# Altium footprint library RF_Connector.PcbLib: 3 footprints
Each footprint in its own frame and in the unit in brackets; x right, y up, seen from the top. Pads: shape width x height; smd on the part's side, far side on the other; paste and mask are expansions set on the pad; w line width, h text height; cw(c..) or ccw(c..) is an arc to the next point about the centre after c.
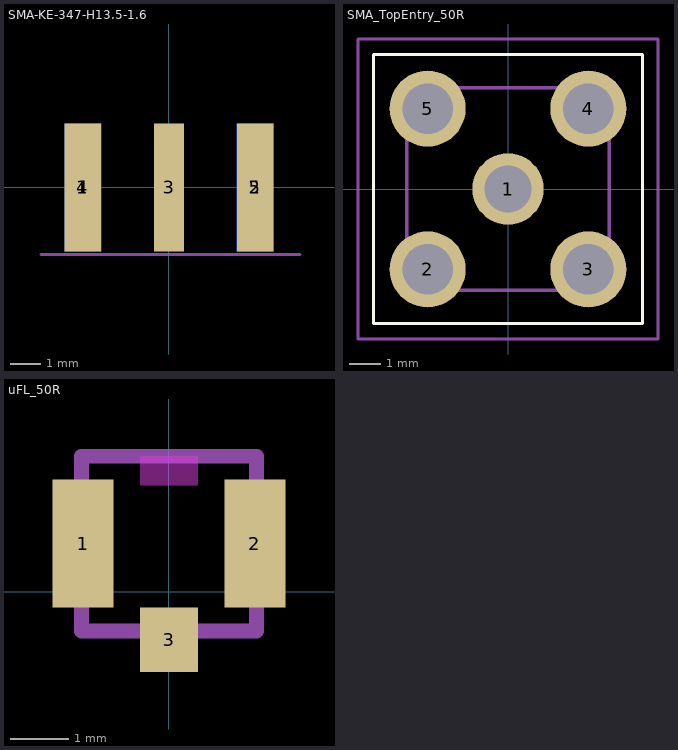
[diagram p0: the footprints below, top view; thin cyan lines are the x and y axes]

## SMA-KE-347-H13.5-1.6 [mm] "SMA BOARD EDGE LAUNCH"
height 3.8
pads (5):
  rect 1.2x4.2 smd: 1(-2.825,0) 2(2.825,0)
  rect 1x4.2 smd: 3(0,0)
  rect 1.2x4.2 smd far side: 4(-2.825,0) 5(2.825,0)
Mechanical 15:
  lines w0.1: -4.2,-2.2 -3.5,-2.2 4.3,-2.2
3D body "Download_STP_60312202114513 (rev1).stp": height 3.37, standoff -2.98, extent -3.175,-11.6 3.175,2.6

## SMA_TopEntry_50R [mm]
pads (5):
  round 2.25 hole 1.5: 1(0,0)
  round 2.4 hole 1.6: 2(-2.54,-2.54) 3(2.54,-2.54) 4(2.54,2.54) 5(-2.54,2.54)
Top Overlay:
  lines w0.1: -4.25,-4.25 4.25,-4.25 4.25,4.25 -4.25,4.25 -4.25,-4.25
Mechanical 13:
  lines w0.1: -3.2,-3.2 -3.2,3.2 3.2,3.2 3.2,-3.2 -3.2,-3.2
Mechanical 15:
  lines w0.1: -4.74,-4.74 -4.74,4.74 4.74,4.74 4.74,-4.74 -4.74,-4.74
3D body "SMA CONNECTOR--3DModel-STEP-1.STEP": height 9.6, standoff -4, extent -3.25,-3.302 3.25,3.198

## uFL_50R [mm] "U.FL (UMCC), I-PEX MHFI Connector Receptacle, Male Pin 50 Ohms Surface Mount Solder"
pads (3):
  rect 1.05x2.2 smd: 1(-1.475,0.825) 2(1.475,0.825)
  rect 1x1.1 smd: 3(0,-0.825)
Top Layer keep-out:
  rectangle: -0.5,1.825 0.5,2.325
Mechanical 13:
  lines w0.254: -1.5,-0.675 1.5,-0.675 1.5,2.325 -1.5,2.325 -1.5,-0.675
3D body "RECE-20279-001E-01.stp": height 1.34, standoff 0, extent -1.5,-0.675 1.5,2.325